# EAGLE library part 5-535541-4 (library 5-535541-4)
AMP - TE CONNECTIVITY - 5-535541-4 - BOARD-BOARD CONNECTOR, RECEPTACLE, 6 POSITION, 1ROW Source: Datasheet <http://www.te.com/commerce/DocumentDelivery/DDEController?Action=showdoc&DocId=Customer Drawing535541N6pdfEnglishENG_CD_535541_N6.pdf5-535541-4>
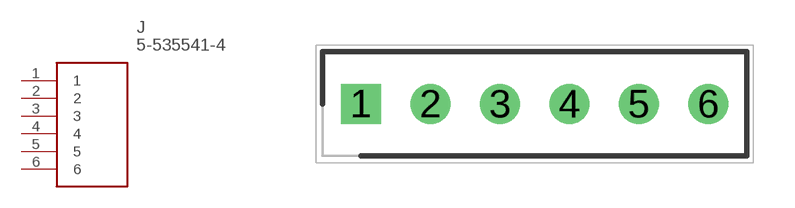
[diagram p0: symbol with the pads of SHDR6W76P0X254_1X6_1524X356X62; footprint SHDR6W76P0X254_1X6_1524X356X62]

Designator prefix J

## 5-535541-4 (Allied_Number: 71210170; Allied_Price-Stock: https://www.alliedelec.com/te-connectivity-5-535541-4/71210170/; Description: AMP - TE CONNECTIVITY - 5-535541-4 - BOARD-BOARD CONNECTOR, RECEPTACLE, 6 POSITION, 1ROW; Height: 6.22mm; Manufacturer_Name: TE Connectivity; Manufacturer_Part_Number: 5-535541-4; Mouser_Part_Number: 571-5-535541-4; Mouser_Price-Stock: https://www.mouser.com/Search/Refine.aspx?Keyword=571-5-535541-4)  [SHDR6W76P0X254_1X6_1524X356X62]
1  1
2  2
3  3
4  4
5  5
6  6

## Footprint SHDR6W76P0X254_1X6_1524X356X62 (pad centres in mm)
5-535541-4
drill 0.95 pad 1.425 square: 1 0,0
drill 0.95 pad 1.425: 2 2.54,0; 3 5.08,0; 4 7.62,0; 5 10.16,0; 6 12.7,0